# Altium footprint library XRCGB32M000F1H00R0.PcbLib: 3 footprints
Each footprint in its own frame and in the unit in brackets; x right, y up, seen from the top. Pads: shape width x height; smd on the part's side, far side on the other; paste and mask are expansions set on the pad; w line width, h text height; cw(c..) or ccw(c..) is an arc to the next point about the centre after c.
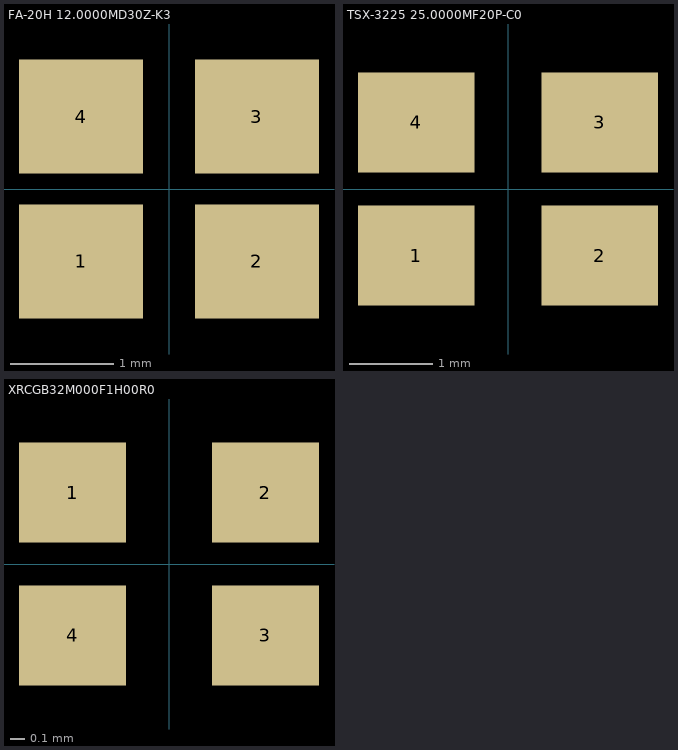
[diagram p0: the footprints below, top view; thin cyan lines are the x and y axes]

## FA-20H 12.0000MD30Z-K3 [mm]
pads (4):
  rect 1.2x1.1 smd: 1(-0.85,-0.7) 2(0.85,-0.7) 3(0.85,0.7) 4(-0.85,0.7)

## TSX-3225 25.0000MF20P-C0 [mm]
pads (4):
  rect 1.4x1.2 smd: 1(-1.1,-0.8) 2(1.1,-0.8) 3(1.1,0.8) 4(-1.1,0.8)

## XRCGB32M000F1H00R0 [mm]
pads (4):
  rect 0.75x0.7 smd: 1(-0.675,0.5) 2(0.675,0.5) 3(0.675,-0.5) 4(-0.675,-0.5)
3D body "XRCGB32M000F1H00R0.STEP": height 0.65, standoff 0, extent -1,-0.8 1,0.8